# Altium schematic symbol library TI.SchLib: 6 symbols
Pins are listed as number, name and electrical type; pins without a type are passive.

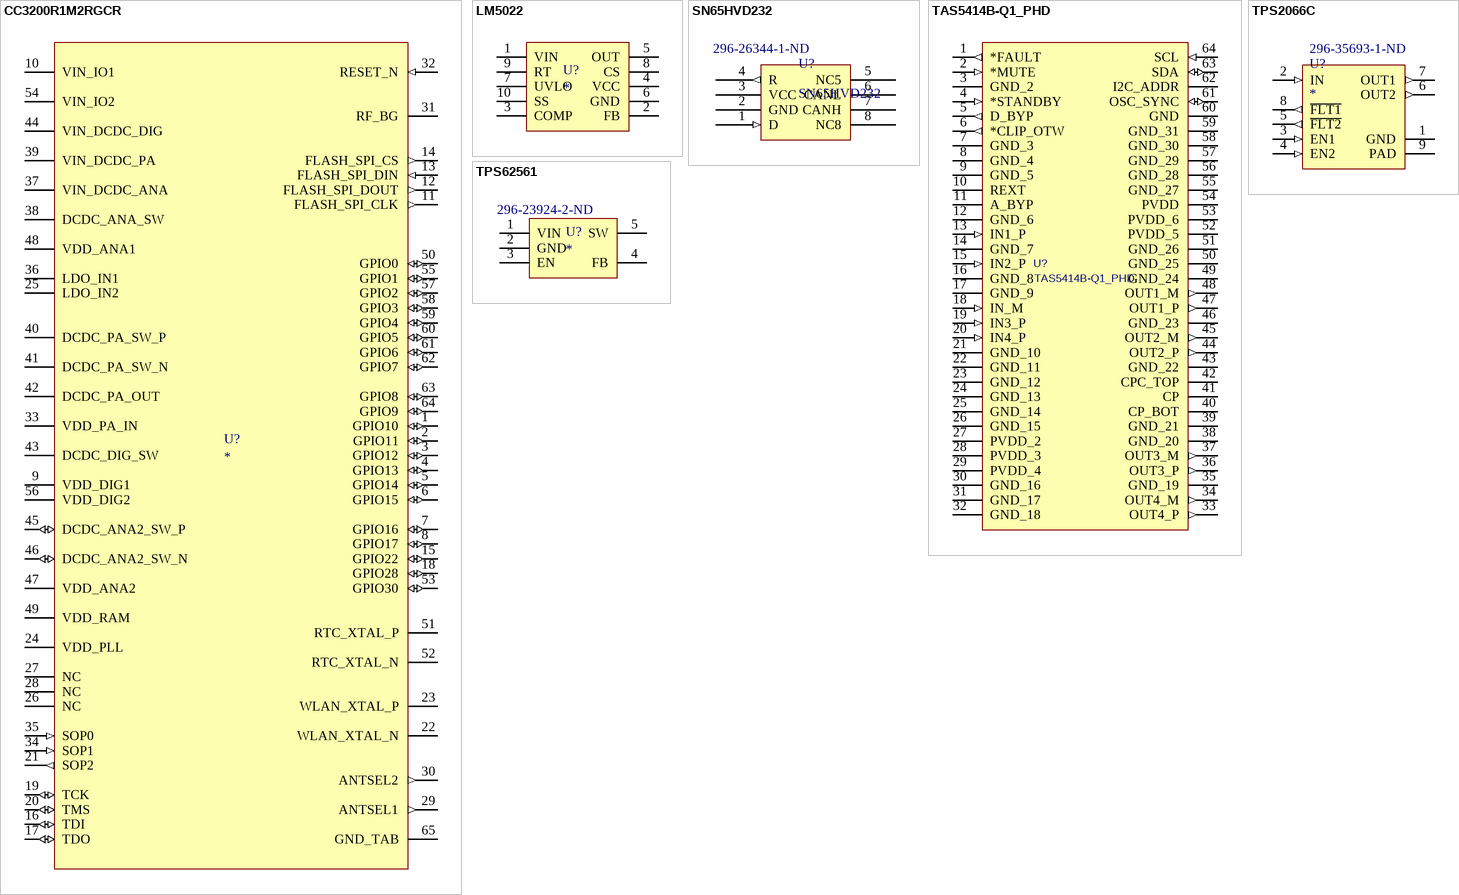
[diagram p0: symbols CC3200R1M2RGCR to TPS62561]

## CC3200R1M2RGCR
designator U?
CC3200 SimpleLinkTM Wi-Fi® and Internet-of-Things Solution, a Single-Chip Wireless MCU; PartNumber: CC3200R1M2RGCR; Alternate PartNumber: CC3200R1M2RGC; Manufacturer: Texas Instruments; CompType: IC; PIN_COUNT: 65; PackageReference: RGC0064A; MountType: SMT; RoHS: Y; RefDes: RefDes; Type: DEV; Value: Value
footprint RGC0064A
pins: 1 GPIO10 (io), 2 GPIO11 (io), 3 GPIO12 (io), 4 GPIO13 (io), 5 GPIO14 (io), 6 GPIO15 (io), 7 GPIO16 (io), 8 GPIO17 (io), 9 VDD_DIG1 (power), 10 VIN_IO1 (power), 11 FLASH_SPI_CLK (out), 12 FLASH_SPI_DOUT (out), 13 FLASH_SPI_DIN (in), 14 FLASH_SPI_CS (out), 15 GPIO22 (io), 16 TDI (io), 17 TDO (io), 18 GPIO28 (io), 19 TCK (io), 20 TMS (io), 21 SOP2 (out), 22 WLAN_XTAL_N, 23 WLAN_XTAL_P, 24 VDD_PLL (power), 25 LDO_IN2 (power), 26 NC, 27 NC, 28 NC, 29 ANTSEL1 (out), 30 ANTSEL2 (out), 31 RF_BG, 32 RESET_N (in), 33 VDD_PA_IN (power), 34 SOP1 (in), 35 SOP0 (in), 36 LDO_IN1 (power), 37 VIN_DCDC_ANA (power), 38 DCDC_ANA_SW (power), 39 VIN_DCDC_PA (power), 40 DCDC_PA_SW_P (power), 41 DCDC_PA_SW_N (power), 42 DCDC_PA_OUT (power), 43 DCDC_DIG_SW (power), 44 VIN_DCDC_DIG (power), 45 DCDC_ANA2_SW_P (io), 46 DCDC_ANA2_SW_N (io), 47 VDD_ANA2 (power), 48 VDD_ANA1 (power), 49 VDD_RAM (power), 50 GPIO0 (io), 51 RTC_XTAL_P, 52 RTC_XTAL_N, 53 GPIO30 (io), 54 VIN_IO2 (power), 55 GPIO1 (io), 56 VDD_DIG2 (power), 57 GPIO2 (io), 58 GPIO3 (io), 59 GPIO4 (io), 60 GPIO5 (io), 61 GPIO6 (io), 62 GPIO7 (io), 63 GPIO8 (io), 64 GPIO9 (io), 65 GND_TAB (power)

## LM5022
designator U?
60V Low Side Controller for Boost and SEPIC
footprint MUB10A
pins: 1 VIN, 2 FB, 3 COMP, 4 VCC, 5 OUT, 6 GND, 7 UVLO, 8 CS, 9 RT, 10 SS

## SN65HVD232
designator U?  Supplier Part Number 1: 296-26344-1-ND
CAN Transceiver; Supplier 1: Digi-Key
footprint SOIC_D8
pins: 1 D (in), 2 GND (power), 3 VCC (power), 4 R (out), 5 NC5, 6 CANL (hiz), 7 CANH (hiz), 8 NC8

## TAS5414B-Q1_PHD
designator U?
4-Channel Automotive Digital Amplifiers; Manufacturer_Part_Number: tas5414b-q1_phd_64; Value: TAS5414B-Q1_PHD_; Vendor: Texas Instruments; PACKAGE_DESIGNATOR: PHD; PIN_COUNT: 64; FAMILY_NAME: MID/HIGH-POWER AMPLIFIER; INDUSTRY_STD_PKG_TYPE: HTQFP; GENERIC_PART_NUMBER: TAS5414B-Q1; Datasheet URL: http://www.ti.com/lit/gpn/TAS5414B-Q1; Manufacturer: Texas Instruments
footprint PHD64_8X8-L
pins: 1 *FAULT (out), 2 *MUTE (in), 3 GND_2 (power), 4 *STANDBY (in), 5 D_BYP (out), 6 *CLIP_OTW (out), 7 GND_3 (power), 8 GND_4 (power), 9 GND_5 (power), 10 REXT, 11 A_BYP, 12 GND_6 (power), 13 IN1_P (in), 14 GND_7 (power), 15 IN2_P (in), 16 GND_8 (power), 17 GND_9 (power), 18 IN_M (in), 19 IN3_P (in), 20 IN4_P (in), 21 GND_10 (power), 22 GND_11 (power), 23 GND_12 (power), 24 GND_13 (power), 25 GND_14 (power), 26 GND_15 (power), 27 PVDD_2 (power), 28 PVDD_3 (power), 29 PVDD_4 (power), 30 GND_16 (power), 31 GND_17 (power), 32 GND_18 (power), 33 OUT4_P (out), 34 OUT4_M (out), 35 GND_19 (power), 36 OUT3_P (out), 37 OUT3_M (out), 38 GND_20 (power), 39 GND_21 (power), 40 CP_BOT, 41 CP, 42 CPC_TOP, 43 GND_22 (power), 44 OUT2_P (out), 45 OUT2_M (out), 46 GND_23 (power), 47 OUT1_P (out), 48 OUT1_M (out), 49 GND_24 (power), 50 GND_25 (power), 51 GND_26 (power), 52 PVDD_5 (power), 53 PVDD_6 (power), 54 PVDD (power), 55 GND_27 (power), 56 GND_28 (power), 57 GND_29 (power), 58 GND_30 (power), 59 GND_31 (power), 60 GND (power), 61 OSC_SYNC (io), 62 I2C_ADDR, 63 SDA (io), 64 SCL (in)

## TPS2066C
designator U?  Supplier Part Number 1: 296-35693-1-ND
Dual Channel, 1A Current-Limited, Power-Distribution Switch; Supplier 1: Digi-Key
footprint TSOP65P490X110_HS-9L (TSOP, 8-Leads, Body 3.00x3.00mm, Pitch 0.65mm, Thermal Pad 1.89.2x1.57.2mm, IPC High Density)
pins: 1 GND (power), 2 IN (in), 3 EN1 (in), 4 EN2 (in), 5 ~{FLT2} (out), 6 OUT2 (out), 7 OUT1 (out), 8 ~{FLT1} (out), 9 PAD

## TPS62561
designator U?  Supplier Part Number 1: 296-23924-2-ND
2.25-MHz, 600-mA Step-Down Converter; Supplier 1: Digi-Key
footprint SOT95P280X110-5L (SOT23, 5-Leads, Body 3,0x2,8mm (max), Pitch 0,95mm, IPC High Density)
pins: 1 VIN (power), 2 GND (power), 3 EN, 4 FB, 5 SW